# Altium integrated library Altium_WCAP-CSGP (rev21d).IntLib: 945 symbols (part 15 of 17)
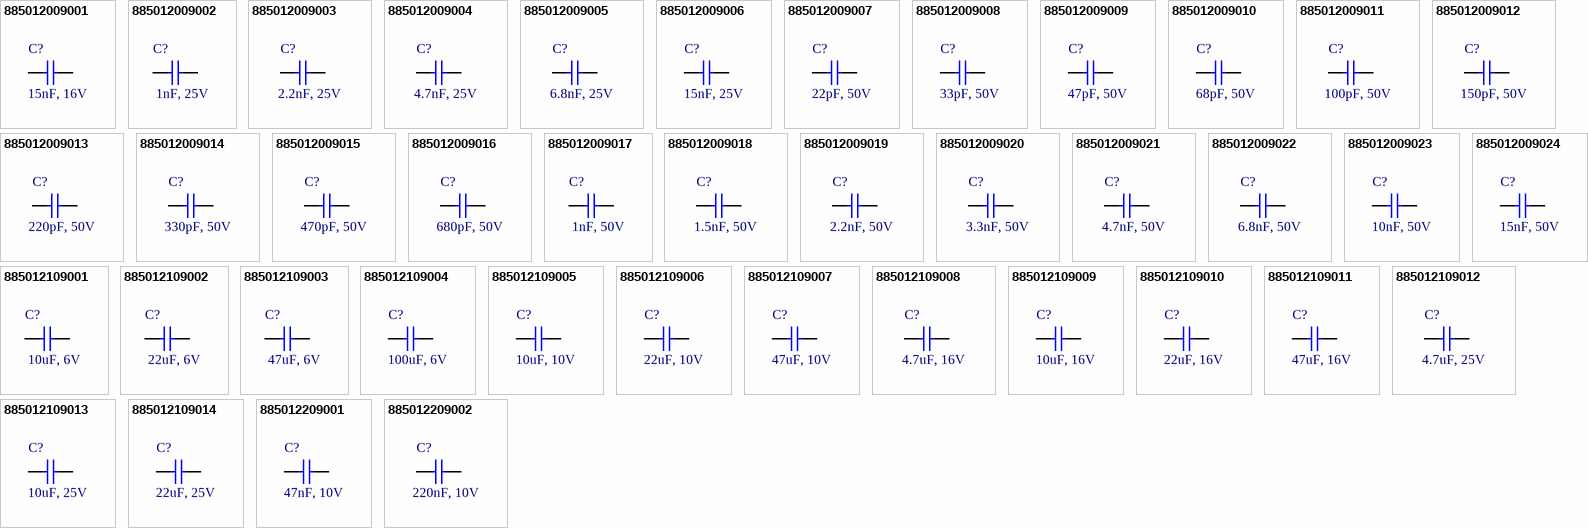
[diagram p41: symbols 885012009001 to 885012209002]

## 885012009011
designator C?, comment 100pF, 50V
WCAP-CSGP Multilayer Ceramic Chip Capacitor, General Purpose, size 1210, NP0, 100pF, 50V; Manufacturer Part Number: 885012009011; Manufacturer: Wurth Elektronik; Rated Voltage: 50VDC; Isolation Resistance  min.: 10GOhm; Capacitance Tolerance: +/-5%; Technical Reference: NP01210101J050DFCT10000; Q-Factor min.: 1000; ComponentLink1Description: Manufacturer; ComponentLink1URL: http://www.we-online.de; ComponentLink2Description: Datasheet; ComponentLink2URL: https://www.we-online.com/catalog/datasheet/885012009011.pdf; Operating Temperature: -55 to +125degC; Packaging: Tape and Reel; Published Date: April 2021; Ceramic Type: NP0; Dissipation Factor max.: -; Height: 0.95mm; Mounting Technology: SMT; Size: 1210; Capacitance: 100pF
footprint WCAP-CSGP_1210_H=0.95mm
pins: 1, 2

## 885012009012
designator C?, comment 150pF, 50V
WCAP-CSGP Multilayer Ceramic Chip Capacitor, General Purpose, size 1210, NP0, 150pF, 50V; Manufacturer Part Number: 885012009012; Manufacturer: Wurth Elektronik; Rated Voltage: 50VDC; Isolation Resistance  min.: 10GOhm; Capacitance Tolerance: +/-5%; Technical Reference: NP01210151J050DFCT10000; Q-Factor min.: 1000; ComponentLink1Description: Manufacturer; ComponentLink1URL: http://www.we-online.de; ComponentLink2Description: Datasheet; ComponentLink2URL: https://www.we-online.com/catalog/datasheet/885012009012.pdf; Operating Temperature: -55 to +125degC; Packaging: Tape and Reel; Published Date: April 2021; Ceramic Type: NP0; Dissipation Factor max.: -; Height: 0.95mm; Mounting Technology: SMT; Size: 1210; Capacitance: 150pF
footprint WCAP-CSGP_1210_H=0.95mm
pins: 1, 2

## 885012009013
designator C?, comment 220pF, 50V
WCAP-CSGP Multilayer Ceramic Chip Capacitor, General Purpose, size 1210, NP0, 220pF, 50V; Manufacturer Part Number: 885012009013; Manufacturer: Wurth Elektronik; Rated Voltage: 50VDC; Isolation Resistance  min.: 10GOhm; Capacitance Tolerance: +/-5%; Technical Reference: NP01210221J050DFCT10000; Q-Factor min.: 1000; ComponentLink1Description: Manufacturer; ComponentLink1URL: http://www.we-online.de; ComponentLink2Description: Datasheet; ComponentLink2URL: https://www.we-online.com/catalog/datasheet/885012009013.pdf; Operating Temperature: -55 to +125degC; Packaging: Tape and Reel; Published Date: April 2021; Ceramic Type: NP0; Dissipation Factor max.: -; Height: 0.95mm; Mounting Technology: SMT; Size: 1210; Capacitance: 220pF
footprint WCAP-CSGP_1210_H=0.95mm
pins: 1, 2

## 885012009014
designator C?, comment 330pF, 50V
WCAP-CSGP Multilayer Ceramic Chip Capacitor, General Purpose, size 1210, NP0, 330pF, 50V; Manufacturer Part Number: 885012009014; Manufacturer: Wurth Elektronik; Rated Voltage: 50VDC; Isolation Resistance  min.: 10GOhm; Capacitance Tolerance: +/-5%; Technical Reference: NP01210331J050DFCT10000; Q-Factor min.: 1000; ComponentLink1Description: Manufacturer; ComponentLink1URL: http://www.we-online.de; ComponentLink2Description: Datasheet; ComponentLink2URL: https://www.we-online.com/catalog/datasheet/885012009014.pdf; Operating Temperature: -55 to +125degC; Packaging: Tape and Reel; Published Date: April 2021; Ceramic Type: NP0; Dissipation Factor max.: -; Height: 0.95mm; Mounting Technology: SMT; Size: 1210; Capacitance: 330pF
footprint WCAP-CSGP_1210_H=0.95mm
pins: 1, 2

## 885012009015
designator C?, comment 470pF, 50V
WCAP-CSGP Multilayer Ceramic Chip Capacitor, General Purpose, size 1210, NP0, 470pF, 50V; Manufacturer Part Number: 885012009015; Manufacturer: Wurth Elektronik; Rated Voltage: 50VDC; Isolation Resistance  min.: 10GOhm; Capacitance Tolerance: +/-5%; Technical Reference: NP01210471J050DFCT10000; Q-Factor min.: 1000; ComponentLink1Description: Manufacturer; ComponentLink1URL: http://www.we-online.de; ComponentLink2Description: Datasheet; ComponentLink2URL: https://www.we-online.com/catalog/datasheet/885012009015.pdf; Operating Temperature: -55 to +125degC; Packaging: Tape and Reel; Published Date: April 2021; Ceramic Type: NP0; Dissipation Factor max.: -; Height: 0.95mm; Mounting Technology: SMT; Size: 1210; Capacitance: 470pF
footprint WCAP-CSGP_1210_H=0.95mm
pins: 1, 2

## 885012009016
designator C?, comment 680pF, 50V
WCAP-CSGP Multilayer Ceramic Chip Capacitor, General Purpose, size 1210, NP0, 680pF, 50V; Manufacturer Part Number: 885012009016; Manufacturer: Wurth Elektronik; Rated Voltage: 50VDC; Isolation Resistance  min.: 10GOhm; Capacitance Tolerance: +/-5%; Technical Reference: NP01210681J050DFCT10000; Q-Factor min.: 1000; ComponentLink1Description: Manufacturer; ComponentLink1URL: http://www.we-online.de; ComponentLink2Description: Datasheet; ComponentLink2URL: https://www.we-online.com/catalog/datasheet/885012009016.pdf; Operating Temperature: -55 to +125degC; Packaging: Tape and Reel; Published Date: April 2021; Ceramic Type: NP0; Dissipation Factor max.: -; Height: 0.95mm; Mounting Technology: SMT; Size: 1210; Capacitance: 680pF
footprint WCAP-CSGP_1210_H=0.95mm
pins: 1, 2

## 885012009017
designator C?, comment 1nF, 50V
WCAP-CSGP Multilayer Ceramic Chip Capacitor, General Purpose, size 1210, NP0, 1nF, 50V; Manufacturer Part Number: 885012009017; Manufacturer: Wurth Elektronik; Rated Voltage: 50VDC; Isolation Resistance  min.: 10GOhm; Capacitance Tolerance: +/-5%; Technical Reference: NP01210102J050DFCT10000; Q-Factor min.: 1000; ComponentLink1Description: Manufacturer; ComponentLink1URL: http://www.we-online.de; ComponentLink2Description: Datasheet; ComponentLink2URL: https://www.we-online.com/catalog/datasheet/885012009017.pdf; Operating Temperature: -55 to +125degC; Packaging: Tape and Reel; Published Date: April 2021; Ceramic Type: NP0; Dissipation Factor max.: -; Height: 0.95mm; Mounting Technology: SMT; Size: 1210; Capacitance: 1nF
footprint WCAP-CSGP_1210_H=0.95mm
pins: 1, 2

## 885012009018
designator C?, comment 1.5nF, 50V
WCAP-CSGP Multilayer Ceramic Chip Capacitor, General Purpose, size 1210, NP0, 1.5nF, 50V; Manufacturer Part Number: 885012009018; Manufacturer: Wurth Elektronik; Rated Voltage: 50VDC; Isolation Resistance  min.: 10GOhm; Capacitance Tolerance: +/-5%; Technical Reference: NP01210152J050DFCT10000; Q-Factor min.: 1000; ComponentLink1Description: Manufacturer; ComponentLink1URL: http://www.we-online.de; ComponentLink2Description: Datasheet; ComponentLink2URL: https://www.we-online.com/catalog/datasheet/885012009018.pdf; Operating Temperature: -55 to +125degC; Packaging: Tape and Reel; Published Date: April 2021; Ceramic Type: NP0; Dissipation Factor max.: -; Height: 0.95mm; Mounting Technology: SMT; Size: 1210; Capacitance: 1.5nF
footprint WCAP-CSGP_1210_H=0.95mm
pins: 1, 2

## 885012009019
designator C?, comment 2.2nF, 50V
WCAP-CSGP Multilayer Ceramic Chip Capacitor, General Purpose, size 1210, NP0, 2.2nF, 50V; Manufacturer Part Number: 885012009019; Manufacturer: Wurth Elektronik; Rated Voltage: 50VDC; Isolation Resistance  min.: 10GOhm; Capacitance Tolerance: +/-5%; Technical Reference: NP01210222J050DFCT10000; Q-Factor min.: 1000; ComponentLink1Description: Manufacturer; ComponentLink1URL: http://www.we-online.de; ComponentLink2Description: Datasheet; ComponentLink2URL: https://www.we-online.com/catalog/datasheet/885012009019.pdf; Operating Temperature: -55 to +125degC; Packaging: Tape and Reel; Published Date: April 2021; Ceramic Type: NP0; Dissipation Factor max.: -; Height: 0.95mm; Mounting Technology: SMT; Size: 1210; Capacitance: 2.2nF
footprint WCAP-CSGP_1210_H=0.95mm
pins: 1, 2

## 885012009020
designator C?, comment 3.3nF, 50V
WCAP-CSGP Multilayer Ceramic Chip Capacitor, General Purpose, size 1210, NP0, 3.3nF, 50V; Manufacturer Part Number: 885012009020; Manufacturer: Wurth Elektronik; Rated Voltage: 50VDC; Isolation Resistance  min.: 10GOhm; Capacitance Tolerance: +/-5%; Technical Reference: NP01210332J050DFCT10000; Q-Factor min.: 1000; ComponentLink1Description: Manufacturer; ComponentLink1URL: http://www.we-online.de; ComponentLink2Description: Datasheet; ComponentLink2URL: https://www.we-online.com/catalog/datasheet/885012009020.pdf; Operating Temperature: -55 to +125degC; Packaging: Tape and Reel; Published Date: April 2021; Ceramic Type: NP0; Dissipation Factor max.: -; Height: 0.95mm; Mounting Technology: SMT; Size: 1210; Capacitance: 3.3nF
footprint WCAP-CSGP_1210_H=0.95mm
pins: 1, 2

## 885012009021
designator C?, comment 4.7nF, 50V
WCAP-CSGP Multilayer Ceramic Chip Capacitor, General Purpose, size 1210, NP0, 4.7nF, 50V; Manufacturer Part Number: 885012009021; Manufacturer: Wurth Elektronik; Rated Voltage: 50VDC; Isolation Resistance  min.: 10GOhm; Capacitance Tolerance: +/-5%; Technical Reference: NP01210472J050DFCT10000; Q-Factor min.: 1000; ComponentLink1Description: Manufacturer; ComponentLink1URL: http://www.we-online.de; ComponentLink2Description: Datasheet; ComponentLink2URL: https://www.we-online.com/catalog/datasheet/885012009021.pdf; Operating Temperature: -55 to +125degC; Packaging: Tape and Reel; Published Date: April 2021; Ceramic Type: NP0; Dissipation Factor max.: -; Height: 0.95mm; Mounting Technology: SMT; Size: 1210; Capacitance: 4.7nF
footprint WCAP-CSGP_1210_H=0.95mm
pins: 1, 2

## 885012009022
designator C?, comment 6.8nF, 50V
WCAP-CSGP Multilayer Ceramic Chip Capacitor, General Purpose, size 1210, NP0, 6.8nF, 50V; Manufacturer Part Number: 885012009022; Manufacturer: Wurth Elektronik; Rated Voltage: 50VDC; Isolation Resistance  min.: 10GOhm; Capacitance Tolerance: +/-5%; Technical Reference: NP01210682J050DFCT10000; Q-Factor min.: 1000; ComponentLink1Description: Manufacturer; ComponentLink1URL: http://www.we-online.de; ComponentLink2Description: Datasheet; ComponentLink2URL: https://www.we-online.com/catalog/datasheet/885012009022.pdf; Operating Temperature: -55 to +125degC; Packaging: Tape and Reel; Published Date: April 2021; Ceramic Type: NP0; Dissipation Factor max.: -; Height: 0.95mm; Mounting Technology: SMT; Size: 1210; Capacitance: 6.8nF
footprint WCAP-CSGP_1210_H=0.95mm
pins: 1, 2

## 885012009023
designator C?, comment 10nF, 50V
WCAP-CSGP Multilayer Ceramic Chip Capacitor, General Purpose, size 1210, NP0, 10nF, 50V; Manufacturer Part Number: 885012009023; Manufacturer: Wurth Elektronik; Rated Voltage: 50VDC; Isolation Resistance  min.: 10GOhm; Capacitance Tolerance: +/-5%; Technical Reference: NP01210103J050DFCT10000; Q-Factor min.: 1000; ComponentLink1Description: Manufacturer; ComponentLink1URL: http://www.we-online.de; ComponentLink2Description: Datasheet; ComponentLink2URL: https://www.we-online.com/catalog/datasheet/885012009023.pdf; Operating Temperature: -55 to +125degC; Packaging: Tape and Reel; Published Date: April 2021; Ceramic Type: NP0; Dissipation Factor max.: -; Height: 0.95mm; Mounting Technology: SMT; Size: 1210; Capacitance: 10nF
footprint WCAP-CSGP_1210_H=0.95mm
pins: 1, 2

## 885012009024
designator C?, comment 15nF, 50V
WCAP-CSGP Multilayer Ceramic Chip Capacitor, General Purpose, size 1210, NP0, 15nF, 50V; Manufacturer Part Number: 885012009024; Manufacturer: Wurth Elektronik; Rated Voltage: 50VDC; Isolation Resistance  min.: 10GOhm; Capacitance Tolerance: +/-5%; Technical Reference: NP01210153J050DFCT10000; Q-Factor min.: 1000; ComponentLink1Description: Manufacturer; ComponentLink1URL: http://www.we-online.de; ComponentLink2Description: Datasheet; ComponentLink2URL: https://www.we-online.com/catalog/datasheet/885012009024.pdf; Operating Temperature: -55 to +125degC; Packaging: Tape and Reel; Published Date: April 2021; Ceramic Type: NP0; Dissipation Factor max.: -; Height: 1.25mm; Mounting Technology: SMT; Size: 1210; Capacitance: 15nF
footprint WCAP-CSGP_1210_H=1.25mm
pins: 1, 2

## 885012109001
designator C?, comment 10uF, 6V
WCAP-CSGP Multilayer Ceramic Chip Capacitor, General Purpose, size 1210, X5R, 10uF, 6V; Manufacturer Part Number: 885012109001; Manufacturer: Wurth Elektronik; Rated Voltage: 6VDC; Isolation Resistance  min.: 0.01GOhm; Capacitance Tolerance: +/-20%; Dissipation Factor max.: 10%; Technical Reference: X5R1210106M6R3DFCT10000; ComponentLink1Description: Manufacturer; ComponentLink1URL: http://www.we-online.de; ComponentLink2Description: Datasheet; ComponentLink2URL: https://www.we-online.com/catalog/datasheet/885012109001.pdf; Operating Temperature: -55 to +85degC; Packaging: Tape and Reel; Published Date: April 2021; Ceramic Type: X5R; Height: 2mm; Mounting Technology: SMT; Size: 1210; Capacitance: 10uF; Q-Factor min.: -
footprint WCAP-CSGP_1210_H=2mm
pins: 1, 2

## 885012109002
designator C?, comment 22uF, 6V
WCAP-CSGP Multilayer Ceramic Chip Capacitor, General Purpose, size 1210, X5R, 22uF, 6V; Manufacturer Part Number: 885012109002; Manufacturer: Wurth Elektronik; Rated Voltage: 6VDC; Isolation Resistance  min.: 0.02GOhm; Capacitance Tolerance: +/-20%; Dissipation Factor max.: 5%; Technical Reference: X5R1210226M6R3DFCT10000; ComponentLink1Description: Manufacturer; ComponentLink1URL: http://www.we-online.de; ComponentLink2Description: Datasheet; ComponentLink2URL: https://www.we-online.com/catalog/datasheet/885012109002.pdf; Operating Temperature: -55 to +85degC; Packaging: Tape and Reel; Published Date: April 2021; Ceramic Type: X5R; Height: 2.5mm; Mounting Technology: SMT; Size: 1210; Capacitance: 22uF; Q-Factor min.: -
footprint WCAP-CSGP_1210_H=2.5mm
pins: 1, 2

## 885012109003
designator C?, comment 47uF, 6V
WCAP-CSGP Multilayer Ceramic Chip Capacitor, General Purpose, size 1210, X5R, 47uF, 6V; Manufacturer Part Number: 885012109003; Manufacturer: Wurth Elektronik; Rated Voltage: 6VDC; Isolation Resistance  min.: 0.002GOhm; Capacitance Tolerance: +/-20%; Dissipation Factor max.: 10%; Technical Reference: X5R1210476M6R3DFCT10000; ComponentLink1Description: Manufacturer; ComponentLink1URL: http://www.we-online.de; ComponentLink2Description: Datasheet; ComponentLink2URL: https://www.we-online.com/catalog/datasheet/885012109003.pdf; Operating Temperature: -55 to +85degC; Packaging: Tape and Reel; Published Date: April 2021; Ceramic Type: X5R; Height: 2.5mm; Mounting Technology: SMT; Size: 1210; Capacitance: 47uF; Q-Factor min.: -
footprint WCAP-CSGP_1210_H=2.5mm
pins: 1, 2

## 885012109004
designator C?, comment 100uF, 6V
WCAP-CSGP Multilayer Ceramic Chip Capacitor, General Purpose, size 1210, X5R, 100uF, 6V; Manufacturer Part Number: 885012109004; Manufacturer: Wurth Elektronik; Rated Voltage: 6VDC; Isolation Resistance  min.: 0.001GOhm; Capacitance Tolerance: +/-20%; Dissipation Factor max.: 10%; Technical Reference: X5R1210107M6R3DFCT10000; ComponentLink1Description: Manufacturer; ComponentLink1URL: http://www.we-online.de; ComponentLink2Description: Datasheet; ComponentLink2URL: https://www.we-online.com/catalog/datasheet/885012109004.pdf; Operating Temperature: -55 to +85degC; Packaging: Tape and Reel; Published Date: April 2021; Ceramic Type: X5R; Height: 2.5mm; Mounting Technology: SMT; Size: 1210; Capacitance: 100uF; Q-Factor min.: -
footprint WCAP-CSGP_1210_H=2.5mm
pins: 1, 2

## 885012109005
designator C?, comment 10uF, 10V
WCAP-CSGP Multilayer Ceramic Chip Capacitor, General Purpose, size 1210, X5R, 10uF, 10V; Manufacturer Part Number: 885012109005; Manufacturer: Wurth Elektronik; Rated Voltage: 10VDC; Isolation Resistance  min.: 0.05GOhm; Capacitance Tolerance: +/-20%; Dissipation Factor max.: 5%; Technical Reference: X5R1210106M010DFCT10000; ComponentLink1Description: Manufacturer; ComponentLink1URL: http://www.we-online.de; ComponentLink2Description: Datasheet; ComponentLink2URL: https://www.we-online.com/catalog/datasheet/885012109005.pdf; Operating Temperature: -55 to +85degC; Packaging: Tape and Reel; Published Date: April 2021; Ceramic Type: X5R; Height: 2mm; Mounting Technology: SMT; Size: 1210; Capacitance: 10uF; Q-Factor min.: -
footprint WCAP-CSGP_1210_H=2mm
pins: 1, 2

## 885012109006
designator C?, comment 22uF, 10V
WCAP-CSGP Multilayer Ceramic Chip Capacitor, General Purpose, size 1210, X5R, 22uF, 10V; Manufacturer Part Number: 885012109006; Manufacturer: Wurth Elektronik; Rated Voltage: 10VDC; Isolation Resistance  min.: 0.02GOhm; Capacitance Tolerance: +/-20%; Dissipation Factor max.: 5%; Technical Reference: X5R1210226M010DFCT10000; ComponentLink1Description: Manufacturer; ComponentLink1URL: http://www.we-online.de; ComponentLink2Description: Datasheet; ComponentLink2URL: https://www.we-online.com/catalog/datasheet/885012109006.pdf; Operating Temperature: -55 to +85degC; Packaging: Tape and Reel; Published Date: April 2021; Ceramic Type: X5R; Height: 2.5mm; Mounting Technology: SMT; Size: 1210; Capacitance: 22uF; Q-Factor min.: -
footprint WCAP-CSGP_1210_H=2.5mm
pins: 1, 2

## 885012109007
designator C?, comment 47uF, 10V
WCAP-CSGP Multilayer Ceramic Chip Capacitor, General Purpose, size 1210, X5R, 47uF, 10V; Manufacturer Part Number: 885012109007; Manufacturer: Wurth Elektronik; Rated Voltage: 10VDC; Isolation Resistance  min.: 0.002GOhm; Capacitance Tolerance: +/-20%; Dissipation Factor max.: 10%; Technical Reference: X5R1210476M010DFCT10000; ComponentLink1Description: Manufacturer; ComponentLink1URL: http://www.we-online.de; ComponentLink2Description: Datasheet; ComponentLink2URL: https://www.we-online.com/catalog/datasheet/885012109007.pdf; Operating Temperature: -55 to +85degC; Packaging: Tape and Reel; Published Date: April 2021; Ceramic Type: X5R; Height: 2.5mm; Mounting Technology: SMT; Size: 1210; Capacitance: 47uF; Q-Factor min.: -
footprint WCAP-CSGP_1210_H=2.5mm
pins: 1, 2

## 885012109008
designator C?, comment 4.7uF, 16V
WCAP-CSGP Multilayer Ceramic Chip Capacitor, General Purpose, size 1210, X5R, 4.7uF, 16V; Manufacturer Part Number: 885012109008; Manufacturer: Wurth Elektronik; Rated Voltage: 16VDC; Isolation Resistance  min.: 0.1GOhm; Capacitance Tolerance: +/-20%; Dissipation Factor max.: 5%; Technical Reference: X5R1210475M016DFCT10000; ComponentLink1Description: Manufacturer; ComponentLink1URL: http://www.we-online.de; ComponentLink2Description: Datasheet; ComponentLink2URL: https://www.we-online.com/catalog/datasheet/885012109008.pdf; Operating Temperature: -55 to +85degC; Packaging: Tape and Reel; Published Date: April 2021; Ceramic Type: X5R; Height: 2mm; Mounting Technology: SMT; Size: 1210; Capacitance: 4.7uF; Q-Factor min.: -
footprint WCAP-CSGP_1210_H=2mm
pins: 1, 2

## 885012109009
designator C?, comment 10uF, 16V
WCAP-CSGP Multilayer Ceramic Chip Capacitor, General Purpose, size 1210, X5R, 10uF, 16V; Manufacturer Part Number: 885012109009; Manufacturer: Wurth Elektronik; Rated Voltage: 16VDC; Isolation Resistance  min.: 0.05GOhm; Capacitance Tolerance: +/-20%; Dissipation Factor max.: 5%; Technical Reference: X5R1210106M016DFCT10000; ComponentLink1Description: Manufacturer; ComponentLink1URL: http://www.we-online.de; ComponentLink2Description: Datasheet; ComponentLink2URL: https://www.we-online.com/catalog/datasheet/885012109009.pdf; Operating Temperature: -55 to +85degC; Packaging: Tape and Reel; Published Date: April 2021; Ceramic Type: X5R; Height: 2mm; Mounting Technology: SMT; Size: 1210; Capacitance: 10uF; Q-Factor min.: -
footprint WCAP-CSGP_1210_H=2mm
pins: 1, 2

## 885012109010
designator C?, comment 22uF, 16V
WCAP-CSGP Multilayer Ceramic Chip Capacitor, General Purpose, size 1210, X5R, 22uF, 16V; Manufacturer Part Number: 885012109010; Manufacturer: Wurth Elektronik; Rated Voltage: 16VDC; Isolation Resistance  min.: 0.02GOhm; Capacitance Tolerance: +/-20%; Dissipation Factor max.: 5%; Technical Reference: X5R1210226M016DFCT10000; ComponentLink1Description: Manufacturer; ComponentLink1URL: http://www.we-online.de; ComponentLink2Description: Datasheet; ComponentLink2URL: https://www.we-online.com/catalog/datasheet/885012109010.pdf; Operating Temperature: -55 to +85degC; Packaging: Tape and Reel; Published Date: April 2021; Ceramic Type: X5R; Height: 2.5mm; Mounting Technology: SMT; Size: 1210; Capacitance: 22uF; Q-Factor min.: -
footprint WCAP-CSGP_1210_H=2.5mm
pins: 1, 2

## 885012109011
designator C?, comment 47uF, 16V
WCAP-CSGP Multilayer Ceramic Chip Capacitor, General Purpose, size 1210, X5R, 47uF, 16V; Manufacturer Part Number: 885012109011; Manufacturer: Wurth Elektronik; Rated Voltage: 16VDC; Isolation Resistance  min.: 0.002GOhm; Capacitance Tolerance: +/-20%; Dissipation Factor max.: 10%; Technical Reference: X5R1210476M016DFCT10000; ComponentLink1Description: Manufacturer; ComponentLink1URL: http://www.we-online.de; ComponentLink2Description: Datasheet; ComponentLink2URL: https://www.we-online.com/catalog/datasheet/885012109011.pdf; Operating Temperature: -55 to +85degC; Packaging: Tape and Reel; Published Date: April 2021; Ceramic Type: X5R; Height: 2.5mm; Mounting Technology: SMT; Size: 1210; Capacitance: 47uF; Q-Factor min.: -
footprint WCAP-CSGP_1210_H=2.5mm
pins: 1, 2

## 885012109012
designator C?, comment 4.7uF, 25V
WCAP-CSGP Multilayer Ceramic Chip Capacitor, General Purpose, size 1210, X5R, 4.7uF, 25V; Manufacturer Part Number: 885012109012; Manufacturer: Wurth Elektronik; Rated Voltage: 25VDC; Isolation Resistance  min.: 0.1GOhm; Capacitance Tolerance: +/-20%; Dissipation Factor max.: 3.5%; Technical Reference: X5R1210475M025DFCT10000; ComponentLink1Description: Manufacturer; ComponentLink1URL: http://www.we-online.de; ComponentLink2Description: Datasheet; ComponentLink2URL: https://www.we-online.com/catalog/datasheet/885012109012.pdf; Operating Temperature: -55 to +85degC; Packaging: Tape and Reel; Published Date: April 2021; Ceramic Type: X5R; Height: 2mm; Mounting Technology: SMT; Size: 1210; Capacitance: 4.7uF; Q-Factor min.: -
footprint WCAP-CSGP_1210_H=2mm
pins: 1, 2

## 885012109013
designator C?, comment 10uF, 25V
WCAP-CSGP Multilayer Ceramic Chip Capacitor, General Purpose, size 1210, X5R, 10uF, 25V; Manufacturer Part Number: 885012109013; Manufacturer: Wurth Elektronik; Rated Voltage: 25VDC; Isolation Resistance  min.: 0.01GOhm; Capacitance Tolerance: +/-20%; Dissipation Factor max.: 10%; Technical Reference: X5R1210106M025DFCT10000; ComponentLink1Description: Manufacturer; ComponentLink1URL: http://www.we-online.de; ComponentLink2Description: Datasheet; ComponentLink2URL: https://www.we-online.com/catalog/datasheet/885012109013.pdf; Operating Temperature: -55 to +85degC; Packaging: Tape and Reel; Published Date: April 2021; Ceramic Type: X5R; Height: 2mm; Mounting Technology: SMT; Size: 1210; Capacitance: 10uF; Q-Factor min.: -
footprint WCAP-CSGP_1210_H=2mm
pins: 1, 2

## 885012109014
designator C?, comment 22uF, 25V
WCAP-CSGP Multilayer Ceramic Chip Capacitor, General Purpose, size 1210, X5R, 22uF, 25V; Manufacturer Part Number: 885012109014; Manufacturer: Wurth Elektronik; Rated Voltage: 25VDC; Isolation Resistance  min.: 0.005GOhm; Capacitance Tolerance: +/-20%; Dissipation Factor max.: 5%; Technical Reference: X5R1210226M025DFCT10000; ComponentLink1Description: Manufacturer; ComponentLink1URL: http://www.we-online.de; ComponentLink2Description: Datasheet; ComponentLink2URL: https://www.we-online.com/catalog/datasheet/885012109014.pdf; Operating Temperature: -55 to +85degC; Packaging: Tape and Reel; Published Date: April 2021; Ceramic Type: X5R; Height: 2.5mm; Mounting Technology: SMT; Size: 1210; Capacitance: 22uF; Q-Factor min.: -
footprint WCAP-CSGP_1210_H=2.5mm
pins: 1, 2

## 885012209001
designator C?, comment 47nF, 10V
WCAP-CSGP Multilayer Ceramic Chip Capacitor, General Purpose, size 1210, X7R, 47nF, 10V; Manufacturer Part Number: 885012209001; Manufacturer: Wurth Elektronik; Rated Voltage: 10VDC; Isolation Resistance  min.: 10GOhm; Capacitance Tolerance: +/-10%; Dissipation Factor max.: 5%; Technical Reference: X7R1210473K010DFCT10000; ComponentLink1Description: Manufacturer; ComponentLink1URL: http://www.we-online.de; ComponentLink2Description: Datasheet; ComponentLink2URL: https://www.we-online.com/catalog/datasheet/885012209001.pdf; Operating Temperature: -55 to +125degC; Packaging: Tape and Reel; Published Date: April 2021; Ceramic Type: X7R; Height: 0.95mm; Mounting Technology: SMT; Size: 1210; Capacitance: 47nF; Q-Factor min.: -
footprint WCAP-CSGP_1210_H=0.95mm
pins: 1, 2

## 885012209002
designator C?, comment 220nF, 10V
WCAP-CSGP Multilayer Ceramic Chip Capacitor, General Purpose, size 1210, X7R, 220nF, 10V; Manufacturer Part Number: 885012209002; Manufacturer: Wurth Elektronik; Rated Voltage: 10VDC; Isolation Resistance  min.: 2.3GOhm; Capacitance Tolerance: +/-10%; Dissipation Factor max.: 5%; Technical Reference: X7R1210224K010DFCT10000; ComponentLink1Description: Manufacturer; ComponentLink1URL: http://www.we-online.de; ComponentLink2Description: Datasheet; ComponentLink2URL: https://www.we-online.com/catalog/datasheet/885012209002.pdf; Operating Temperature: -55 to +125degC; Packaging: Tape and Reel; Published Date: April 2021; Ceramic Type: X7R; Height: 0.95mm; Mounting Technology: SMT; Size: 1210; Capacitance: 220nF; Q-Factor min.: -
footprint WCAP-CSGP_1210_H=0.95mm
pins: 1, 2

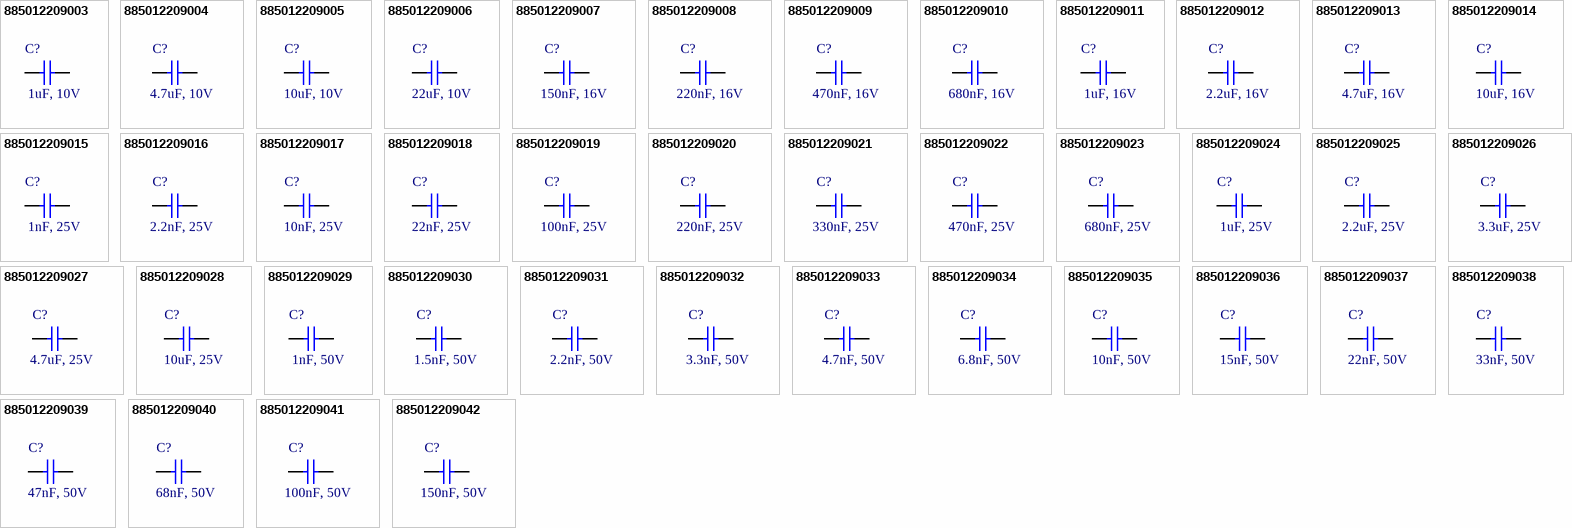
[diagram p24: symbols 885012209003 to 885012209042]

## 885012209003
designator C?, comment 1uF, 10V
WCAP-CSGP Multilayer Ceramic Chip Capacitor, General Purpose, size 1210, X7R, 1uF, 10V; Manufacturer Part Number: 885012209003; Manufacturer: Wurth Elektronik; Rated Voltage: 10VDC; Isolation Resistance  min.: 0.5GOhm; Capacitance Tolerance: +/-10%; Dissipation Factor max.: 5%; Technical Reference: X7R1210105K010DFCT10000; ComponentLink1Description: Manufacturer; ComponentLink1URL: http://www.we-online.de; ComponentLink2Description: Datasheet; ComponentLink2URL: https://www.we-online.com/catalog/datasheet/885012209003.pdf; Operating Temperature: -55 to +125degC; Packaging: Tape and Reel; Published Date: April 2021; Ceramic Type: X7R; Height: 1.25mm; Mounting Technology: SMT; Size: 1210; Capacitance: 1uF; Q-Factor min.: -
footprint WCAP-CSGP_1210_H=1.25mm
pins: 1, 2

## 885012209004
designator C?, comment 4.7uF, 10V
WCAP-CSGP Multilayer Ceramic Chip Capacitor, General Purpose, size 1210, X7R, 4.7uF, 10V; Manufacturer Part Number: 885012209004; Manufacturer: Wurth Elektronik; Rated Voltage: 10VDC; Isolation Resistance  min.: 0.1GOhm; Capacitance Tolerance: +/-10%; Dissipation Factor max.: 5%; Technical Reference: X7R1210475K010DFCT10000; ComponentLink1Description: Manufacturer; ComponentLink1URL: http://www.we-online.de; ComponentLink2Description: Datasheet; ComponentLink2URL: https://www.we-online.com/catalog/datasheet/885012209004.pdf; Operating Temperature: -55 to +125degC; Packaging: Tape and Reel; Published Date: April 2021; Ceramic Type: X7R; Height: 2mm; Mounting Technology: SMT; Size: 1210; Capacitance: 4.7uF; Q-Factor min.: -
footprint WCAP-CSGP_1210_H=2mm
pins: 1, 2

## 885012209005
designator C?, comment 10uF, 10V
WCAP-CSGP Multilayer Ceramic Chip Capacitor, General Purpose, size 1210, X7R, 10uF, 10V; Manufacturer Part Number: 885012209005; Manufacturer: Wurth Elektronik; Rated Voltage: 10VDC; Isolation Resistance  min.: 0.1GOhm; Capacitance Tolerance: +/-10%; Dissipation Factor max.: 5%; Technical Reference: X7R1210106K010DFCT10000; ComponentLink1Description: Manufacturer; ComponentLink1URL: http://www.we-online.de; ComponentLink2Description: Datasheet; ComponentLink2URL: https://www.we-online.com/catalog/datasheet/885012209005.pdf; Operating Temperature: -55 to +125degC; Packaging: Tape and Reel; Published Date: April 2021; Ceramic Type: X7R; Height: 2mm; Mounting Technology: SMT; Size: 1210; Capacitance: 10uF; Q-Factor min.: -
footprint WCAP-CSGP_1210_H=2mm
pins: 1, 2

## 885012209006
designator C?, comment 22uF, 10V
WCAP-CSGP Multilayer Ceramic Chip Capacitor, General Purpose, size 1210, X7R, 22uF, 10V; Manufacturer Part Number: 885012209006; Manufacturer: Wurth Elektronik; Rated Voltage: 10VDC; Isolation Resistance  min.: 0.02GOhm; Capacitance Tolerance: +/-10%; Dissipation Factor max.: 5%; Technical Reference: X7R1210226K010DFCT10000; ComponentLink1Description: Manufacturer; ComponentLink1URL: http://www.we-online.de; ComponentLink2Description: Datasheet; ComponentLink2URL: https://www.we-online.com/catalog/datasheet/885012209006.pdf; Operating Temperature: -55 to +125degC; Packaging: Tape and Reel; Published Date: April 2021; Ceramic Type: X7R; Height: 2.5mm; Mounting Technology: SMT; Size: 1210; Capacitance: 22uF; Q-Factor min.: -
footprint WCAP-CSGP_1210_H=2.5mm
pins: 1, 2

## 885012209007
designator C?, comment 150nF, 16V
WCAP-CSGP Multilayer Ceramic Chip Capacitor, General Purpose, size 1210, X7R, 150nF, 16V; Manufacturer Part Number: 885012209007; Manufacturer: Wurth Elektronik; Rated Voltage: 16VDC; Isolation Resistance  min.: 3.3GOhm; Capacitance Tolerance: +/-10%; Dissipation Factor max.: 3.5%; Technical Reference: X7R1210154K016DFCT10000; ComponentLink1Description: Manufacturer; ComponentLink1URL: http://www.we-online.de; ComponentLink2Description: Datasheet; ComponentLink2URL: https://www.we-online.com/catalog/datasheet/885012209007.pdf; Operating Temperature: -55 to +125degC; Packaging: Tape and Reel; Published Date: April 2021; Ceramic Type: X7R; Height: 0.95mm; Mounting Technology: SMT; Size: 1210; Capacitance: 150nF; Q-Factor min.: -
footprint WCAP-CSGP_1210_H=0.95mm
pins: 1, 2

## 885012209008
designator C?, comment 220nF, 16V
WCAP-CSGP Multilayer Ceramic Chip Capacitor, General Purpose, size 1210, X7R, 220nF, 16V; Manufacturer Part Number: 885012209008; Manufacturer: Wurth Elektronik; Rated Voltage: 16VDC; Isolation Resistance  min.: 2.3GOhm; Capacitance Tolerance: +/-10%; Dissipation Factor max.: 3.5%; Technical Reference: X7R1210224K016DFCT10000; ComponentLink1Description: Manufacturer; ComponentLink1URL: http://www.we-online.de; ComponentLink2Description: Datasheet; ComponentLink2URL: https://www.we-online.com/catalog/datasheet/885012209008.pdf; Operating Temperature: -55 to +125degC; Packaging: Tape and Reel; Published Date: April 2021; Ceramic Type: X7R; Height: 0.95mm; Mounting Technology: SMT; Size: 1210; Capacitance: 220nF; Q-Factor min.: -
footprint WCAP-CSGP_1210_H=0.95mm
pins: 1, 2

## 885012209009
designator C?, comment 470nF, 16V
WCAP-CSGP Multilayer Ceramic Chip Capacitor, General Purpose, size 1210, X7R, 470nF, 16V; Manufacturer Part Number: 885012209009; Manufacturer: Wurth Elektronik; Rated Voltage: 16VDC; Isolation Resistance  min.: 1.1GOhm; Capacitance Tolerance: +/-10%; Dissipation Factor max.: 3.5%; Technical Reference: X7R1210474K016DFCT10000; ComponentLink1Description: Manufacturer; ComponentLink1URL: http://www.we-online.de; ComponentLink2Description: Datasheet; ComponentLink2URL: https://www.we-online.com/catalog/datasheet/885012209009.pdf; Operating Temperature: -55 to +125degC; Packaging: Tape and Reel; Published Date: April 2021; Ceramic Type: X7R; Height: 0.95mm; Mounting Technology: SMT; Size: 1210; Capacitance: 470nF; Q-Factor min.: -
footprint WCAP-CSGP_1210_H=0.95mm
pins: 1, 2

## 885012209010
designator C?, comment 680nF, 16V
WCAP-CSGP Multilayer Ceramic Chip Capacitor, General Purpose, size 1210, X7R, 680nF, 16V; Manufacturer Part Number: 885012209010; Manufacturer: Wurth Elektronik; Rated Voltage: 16VDC; Isolation Resistance  min.: 0.7GOhm; Capacitance Tolerance: +/-10%; Dissipation Factor max.: 3.5%; Technical Reference: X7R1210684K016DFCT10000; ComponentLink1Description: Manufacturer; ComponentLink1URL: http://www.we-online.de; ComponentLink2Description: Datasheet; ComponentLink2URL: https://www.we-online.com/catalog/datasheet/885012209010.pdf; Operating Temperature: -55 to +125degC; Packaging: Tape and Reel; Published Date: April 2021; Ceramic Type: X7R; Height: 1.25mm; Mounting Technology: SMT; Size: 1210; Capacitance: 680nF; Q-Factor min.: -
footprint WCAP-CSGP_1210_H=1.25mm
pins: 1, 2

## 885012209011
designator C?, comment 1uF, 16V
WCAP-CSGP Multilayer Ceramic Chip Capacitor, General Purpose, size 1210, X7R, 1uF, 16V; Manufacturer Part Number: 885012209011; Manufacturer: Wurth Elektronik; Rated Voltage: 16VDC; Isolation Resistance  min.: 0.5GOhm; Capacitance Tolerance: +/-10%; Dissipation Factor max.: 3.5%; Technical Reference: X7R1210105K016DFCT10000; ComponentLink1Description: Manufacturer; ComponentLink1URL: http://www.we-online.de; ComponentLink2Description: Datasheet; ComponentLink2URL: https://www.we-online.com/catalog/datasheet/885012209011.pdf; Operating Temperature: -55 to +125degC; Packaging: Tape and Reel; Published Date: April 2021; Ceramic Type: X7R; Height: 1.25mm; Mounting Technology: SMT; Size: 1210; Capacitance: 1uF; Q-Factor min.: -
footprint WCAP-CSGP_1210_H=1.25mm
pins: 1, 2

## 885012209012
designator C?, comment 2.2uF, 16V
WCAP-CSGP Multilayer Ceramic Chip Capacitor, General Purpose, size 1210, X7R, 2.2uF, 16V; Manufacturer Part Number: 885012209012; Manufacturer: Wurth Elektronik; Rated Voltage: 16VDC; Isolation Resistance  min.: 0.2GOhm; Capacitance Tolerance: +/-10%; Dissipation Factor max.: 3.5%; Technical Reference: X7R1210225K016DFCT10000; ComponentLink1Description: Manufacturer; ComponentLink1URL: http://www.we-online.de; ComponentLink2Description: Datasheet; ComponentLink2URL: https://www.we-online.com/catalog/datasheet/885012209012.pdf; Operating Temperature: -55 to +125degC; Packaging: Tape and Reel; Published Date: April 2021; Ceramic Type: X7R; Height: 2mm; Mounting Technology: SMT; Size: 1210; Capacitance: 2.2uF; Q-Factor min.: -
footprint WCAP-CSGP_1210_H=2mm
pins: 1, 2

## 885012209013
designator C?, comment 4.7uF, 16V
WCAP-CSGP Multilayer Ceramic Chip Capacitor, General Purpose, size 1210, X7R, 4.7uF, 16V; Manufacturer Part Number: 885012209013; Manufacturer: Wurth Elektronik; Rated Voltage: 16VDC; Isolation Resistance  min.: 0.1GOhm; Capacitance Tolerance: +/-10%; Dissipation Factor max.: 5%; Technical Reference: X7R1210475K016DFCT10000; ComponentLink1Description: Manufacturer; ComponentLink1URL: http://www.we-online.de; ComponentLink2Description: Datasheet; ComponentLink2URL: https://www.we-online.com/catalog/datasheet/885012209013.pdf; Operating Temperature: -55 to +125degC; Packaging: Tape and Reel; Published Date: April 2021; Ceramic Type: X7R; Height: 2mm; Mounting Technology: SMT; Size: 1210; Capacitance: 4.7uF; Q-Factor min.: -
footprint WCAP-CSGP_1210_H=2mm
pins: 1, 2

## 885012209014
designator C?, comment 10uF, 16V
WCAP-CSGP Multilayer Ceramic Chip Capacitor, General Purpose, size 1210, X7R, 10uF, 16V; Manufacturer Part Number: 885012209014; Manufacturer: Wurth Elektronik; Rated Voltage: 16VDC; Isolation Resistance  min.: 0.1GOhm; Capacitance Tolerance: +/-10%; Dissipation Factor max.: 5%; Technical Reference: X7R1210106K016DFCT10000; ComponentLink1Description: Manufacturer; ComponentLink1URL: http://www.we-online.de; ComponentLink2Description: Datasheet; ComponentLink2URL: https://www.we-online.com/catalog/datasheet/885012209014.pdf; Operating Temperature: -55 to +125degC; Packaging: Tape and Reel; Published Date: April 2021; Ceramic Type: X7R; Height: 2mm; Mounting Technology: SMT; Size: 1210; Capacitance: 10uF; Q-Factor min.: -
footprint WCAP-CSGP_1210_H=2mm
pins: 1, 2

## 885012209015
designator C?, comment 1nF, 25V
WCAP-CSGP Multilayer Ceramic Chip Capacitor, General Purpose, size 1210, X7R, 1nF, 25V; Manufacturer Part Number: 885012209015; Manufacturer: Wurth Elektronik; Rated Voltage: 25VDC; Isolation Resistance  min.: 10GOhm; Capacitance Tolerance: +/-10%; Dissipation Factor max.: 3.5%; Technical Reference: X7R1210102K025DFCT10000; ComponentLink1Description: Manufacturer; ComponentLink1URL: http://www.we-online.de; ComponentLink2Description: Datasheet; ComponentLink2URL: https://www.we-online.com/catalog/datasheet/885012209015.pdf; Operating Temperature: -55 to +125degC; Packaging: Tape and Reel; Published Date: April 2021; Ceramic Type: X7R; Height: 0.95mm; Mounting Technology: SMT; Size: 1210; Capacitance: 1nF; Q-Factor min.: -
footprint WCAP-CSGP_1210_H=0.95mm
pins: 1, 2

## 885012209016
designator C?, comment 2.2nF, 25V
WCAP-CSGP Multilayer Ceramic Chip Capacitor, General Purpose, size 1210, X7R, 2.2nF, 25V; Manufacturer Part Number: 885012209016; Manufacturer: Wurth Elektronik; Rated Voltage: 25VDC; Isolation Resistance  min.: 10GOhm; Capacitance Tolerance: +/-10%; Dissipation Factor max.: 3.5%; Technical Reference: X7R1210222K025DFCT10000; ComponentLink1Description: Manufacturer; ComponentLink1URL: http://www.we-online.de; ComponentLink2Description: Datasheet; ComponentLink2URL: https://www.we-online.com/catalog/datasheet/885012209016.pdf; Operating Temperature: -55 to +125degC; Packaging: Tape and Reel; Published Date: April 2021; Ceramic Type: X7R; Height: 0.95mm; Mounting Technology: SMT; Size: 1210; Capacitance: 2.2nF; Q-Factor min.: -
footprint WCAP-CSGP_1210_H=0.95mm
pins: 1, 2

## 885012209017
designator C?, comment 10nF, 25V
WCAP-CSGP Multilayer Ceramic Chip Capacitor, General Purpose, size 1210, X7R, 10nF, 25V; Manufacturer Part Number: 885012209017; Manufacturer: Wurth Elektronik; Rated Voltage: 25VDC; Isolation Resistance  min.: 10GOhm; Capacitance Tolerance: +/-10%; Dissipation Factor max.: 3.5%; Technical Reference: X7R1210103K025DFCT10000; ComponentLink1Description: Manufacturer; ComponentLink1URL: http://www.we-online.de; ComponentLink2Description: Datasheet; ComponentLink2URL: https://www.we-online.com/catalog/datasheet/885012209017.pdf; Operating Temperature: -55 to +125degC; Packaging: Tape and Reel; Published Date: April 2021; Ceramic Type: X7R; Height: 0.95mm; Mounting Technology: SMT; Size: 1210; Capacitance: 10nF; Q-Factor min.: -
footprint WCAP-CSGP_1210_H=0.95mm
pins: 1, 2

## 885012209018
designator C?, comment 22nF, 25V
WCAP-CSGP Multilayer Ceramic Chip Capacitor, General Purpose, size 1210, X7R, 22nF, 25V; Manufacturer Part Number: 885012209018; Manufacturer: Wurth Elektronik; Rated Voltage: 25VDC; Isolation Resistance  min.: 10GOhm; Capacitance Tolerance: +/-10%; Dissipation Factor max.: 3.5%; Technical Reference: X7R1210223K025DFCT10000; ComponentLink1Description: Manufacturer; ComponentLink1URL: http://www.we-online.de; ComponentLink2Description: Datasheet; ComponentLink2URL: https://www.we-online.com/catalog/datasheet/885012209018.pdf; Operating Temperature: -55 to +125degC; Packaging: Tape and Reel; Published Date: April 2021; Ceramic Type: X7R; Height: 0.95mm; Mounting Technology: SMT; Size: 1210; Capacitance: 22nF; Q-Factor min.: -
footprint WCAP-CSGP_1210_H=0.95mm
pins: 1, 2

## 885012209019
designator C?, comment 100nF, 25V
WCAP-CSGP Multilayer Ceramic Chip Capacitor, General Purpose, size 1210, X7R, 100nF, 25V; Manufacturer Part Number: 885012209019; Manufacturer: Wurth Elektronik; Rated Voltage: 25VDC; Isolation Resistance  min.: 5GOhm; Capacitance Tolerance: +/-10%; Dissipation Factor max.: 3.5%; Technical Reference: X7R1210104K025DFCT10000; ComponentLink1Description: Manufacturer; ComponentLink1URL: http://www.we-online.de; ComponentLink2Description: Datasheet; ComponentLink2URL: https://www.we-online.com/catalog/datasheet/885012209019.pdf; Operating Temperature: -55 to +125degC; Packaging: Tape and Reel; Published Date: April 2021; Ceramic Type: X7R; Height: 0.95mm; Mounting Technology: SMT; Size: 1210; Capacitance: 100nF; Q-Factor min.: -
footprint WCAP-CSGP_1210_H=0.95mm
pins: 1, 2

## 885012209020
designator C?, comment 220nF, 25V
WCAP-CSGP Multilayer Ceramic Chip Capacitor, General Purpose, size 1210, X7R, 220nF, 25V; Manufacturer Part Number: 885012209020; Manufacturer: Wurth Elektronik; Rated Voltage: 25VDC; Isolation Resistance  min.: 2.3GOhm; Capacitance Tolerance: +/-10%; Dissipation Factor max.: 3.5%; Technical Reference: X7R1210224K025DFCT10000; ComponentLink1Description: Manufacturer; ComponentLink1URL: http://www.we-online.de; ComponentLink2Description: Datasheet; ComponentLink2URL: https://www.we-online.com/catalog/datasheet/885012209020.pdf; Operating Temperature: -55 to +125degC; Packaging: Tape and Reel; Published Date: April 2021; Ceramic Type: X7R; Height: 0.95mm; Mounting Technology: SMT; Size: 1210; Capacitance: 220nF; Q-Factor min.: -
footprint WCAP-CSGP_1210_H=0.95mm
pins: 1, 2

## 885012209021
designator C?, comment 330nF, 25V
WCAP-CSGP Multilayer Ceramic Chip Capacitor, General Purpose, size 1210, X7R, 330nF, 25V; Manufacturer Part Number: 885012209021; Manufacturer: Wurth Elektronik; Rated Voltage: 25VDC; Isolation Resistance  min.: 1.5GOhm; Capacitance Tolerance: +/-10%; Dissipation Factor max.: 3.5%; Technical Reference: X7R1210334K025DFCT10000; ComponentLink1Description: Manufacturer; ComponentLink1URL: http://www.we-online.de; ComponentLink2Description: Datasheet; ComponentLink2URL: https://www.we-online.com/catalog/datasheet/885012209021.pdf; Operating Temperature: -55 to +125degC; Packaging: Tape and Reel; Published Date: April 2021; Ceramic Type: X7R; Height: 0.95mm; Mounting Technology: SMT; Size: 1210; Capacitance: 330nF; Q-Factor min.: -
footprint WCAP-CSGP_1210_H=0.95mm
pins: 1, 2

## 885012209022
designator C?, comment 470nF, 25V
WCAP-CSGP Multilayer Ceramic Chip Capacitor, General Purpose, size 1210, X7R, 470nF, 25V; Manufacturer Part Number: 885012209022; Manufacturer: Wurth Elektronik; Rated Voltage: 25VDC; Isolation Resistance  min.: 1.1GOhm; Capacitance Tolerance: +/-10%; Dissipation Factor max.: 3.5%; Technical Reference: X7R1210474K025DFCT10000; ComponentLink1Description: Manufacturer; ComponentLink1URL: http://www.we-online.de; ComponentLink2Description: Datasheet; ComponentLink2URL: https://www.we-online.com/catalog/datasheet/885012209022.pdf; Operating Temperature: -55 to +125degC; Packaging: Tape and Reel; Published Date: April 2021; Ceramic Type: X7R; Height: 0.95mm; Mounting Technology: SMT; Size: 1210; Capacitance: 470nF; Q-Factor min.: -
footprint WCAP-CSGP_1210_H=0.95mm
pins: 1, 2

## 885012209023
designator C?, comment 680nF, 25V
WCAP-CSGP Multilayer Ceramic Chip Capacitor, General Purpose, size 1210, X7R, 680nF, 25V; Manufacturer Part Number: 885012209023; Manufacturer: Wurth Elektronik; Rated Voltage: 25VDC; Isolation Resistance  min.: 0.7GOhm; Capacitance Tolerance: +/-10%; Dissipation Factor max.: 3.5%; Technical Reference: X7R1210684K025DFCT10000; ComponentLink1Description: Manufacturer; ComponentLink1URL: http://www.we-online.de; ComponentLink2Description: Datasheet; ComponentLink2URL: https://www.we-online.com/catalog/datasheet/885012209023.pdf; Operating Temperature: -55 to +125degC; Packaging: Tape and Reel; Published Date: April 2021; Ceramic Type: X7R; Height: 1.25mm; Mounting Technology: SMT; Size: 1210; Capacitance: 680nF; Q-Factor min.: -
footprint WCAP-CSGP_1210_H=1.25mm
pins: 1, 2

## 885012209024
designator C?, comment 1uF, 25V
WCAP-CSGP Multilayer Ceramic Chip Capacitor, General Purpose, size 1210, X7R, 1uF, 25V; Manufacturer Part Number: 885012209024; Manufacturer: Wurth Elektronik; Rated Voltage: 25VDC; Isolation Resistance  min.: 0.5GOhm; Capacitance Tolerance: +/-10%; Dissipation Factor max.: 3.5%; Technical Reference: X7R1210105K025DFCT10000; ComponentLink1Description: Manufacturer; ComponentLink1URL: http://www.we-online.de; ComponentLink2Description: Datasheet; ComponentLink2URL: https://www.we-online.com/catalog/datasheet/885012209024.pdf; Operating Temperature: -55 to +125degC; Packaging: Tape and Reel; Published Date: April 2021; Ceramic Type: X7R; Height: 1.25mm; Mounting Technology: SMT; Size: 1210; Capacitance: 1uF; Q-Factor min.: -
footprint WCAP-CSGP_1210_H=1.25mm
pins: 1, 2

## 885012209025
designator C?, comment 2.2uF, 25V
WCAP-CSGP Multilayer Ceramic Chip Capacitor, General Purpose, size 1210, X7R, 2.2uF, 25V; Manufacturer Part Number: 885012209025; Manufacturer: Wurth Elektronik; Rated Voltage: 25VDC; Isolation Resistance  min.: 0.2GOhm; Capacitance Tolerance: +/-10%; Dissipation Factor max.: 3.5%; Technical Reference: X7R1210225K025DFCT10000; ComponentLink1Description: Manufacturer; ComponentLink1URL: http://www.we-online.de; ComponentLink2Description: Datasheet; ComponentLink2URL: https://www.we-online.com/catalog/datasheet/885012209025.pdf; Operating Temperature: -55 to +125degC; Packaging: Tape and Reel; Published Date: April 2021; Ceramic Type: X7R; Height: 1.6mm; Mounting Technology: SMT; Size: 1210; Capacitance: 2.2uF; Q-Factor min.: -
footprint WCAP-CSGP_1210_H=1.6mm
pins: 1, 2

## 885012209026
designator C?, comment 3.3uF, 25V
WCAP-CSGP Multilayer Ceramic Chip Capacitor, General Purpose, size 1210, X7R, 3.3uF, 25V; Manufacturer Part Number: 885012209026; Manufacturer: Wurth Elektronik; Rated Voltage: 25VDC; Isolation Resistance  min.: 0.2GOhm; Capacitance Tolerance: +/-10%; Dissipation Factor max.: 3.5%; Technical Reference: X7R1210335K025DFCT10000; ComponentLink1Description: Manufacturer; ComponentLink1URL: http://www.we-online.de; ComponentLink2Description: Datasheet; ComponentLink2URL: https://www.we-online.com/catalog/datasheet/885012209026.pdf; Operating Temperature: -55 to +125degC; Packaging: Tape and Reel; Published Date: April 2021; Ceramic Type: X7R; Height: 1.6mm; Mounting Technology: SMT; Size: 1210; Capacitance: 3.3uF; Q-Factor min.: -
footprint WCAP-CSGP_1210_H=1.6mm
pins: 1, 2

## 885012209027
designator C?, comment 4.7uF, 25V
WCAP-CSGP Multilayer Ceramic Chip Capacitor, General Purpose, size 1210, X7R, 4.7uF, 25V; Manufacturer Part Number: 885012209027; Manufacturer: Wurth Elektronik; Rated Voltage: 25VDC; Isolation Resistance  min.: 0.1GOhm; Capacitance Tolerance: +/-10%; Dissipation Factor max.: 3.5%; Technical Reference: X7R1210475K025DFCT10000; ComponentLink1Description: Manufacturer; ComponentLink1URL: http://www.we-online.de; ComponentLink2Description: Datasheet; ComponentLink2URL: https://www.we-online.com/catalog/datasheet/885012209027.pdf; Operating Temperature: -55 to +125degC; Packaging: Tape and Reel; Published Date: April 2021; Ceramic Type: X7R; Height: 2mm; Mounting Technology: SMT; Size: 1210; Capacitance: 4.7uF; Q-Factor min.: -
footprint WCAP-CSGP_1210_H=2mm
pins: 1, 2

## 885012209028
designator C?, comment 10uF, 25V
WCAP-CSGP Multilayer Ceramic Chip Capacitor, General Purpose, size 1210, X7R, 10uF, 25V; Manufacturer Part Number: 885012209028; Manufacturer: Wurth Elektronik; Rated Voltage: 25VDC; Isolation Resistance  min.: 0.01GOhm; Capacitance Tolerance: +/-10%; Dissipation Factor max.: 5%; Technical Reference: X7R1210106K025DFCT10000; ComponentLink1Description: Manufacturer; ComponentLink1URL: http://www.we-online.de; ComponentLink2Description: Datasheet; ComponentLink2URL: https://www.we-online.com/catalog/datasheet/885012209028.pdf; Operating Temperature: -55 to +125degC; Packaging: Tape and Reel; Published Date: April 2021; Ceramic Type: X7R; Height: 2mm; Mounting Technology: SMT; Size: 1210; Capacitance: 10uF; Q-Factor min.: -
footprint WCAP-CSGP_1210_H=2mm
pins: 1, 2

## 885012209029
designator C?, comment 1nF, 50V
WCAP-CSGP Multilayer Ceramic Chip Capacitor, General Purpose, size 1210, X7R, 1nF, 50V; Manufacturer Part Number: 885012209029; Manufacturer: Wurth Elektronik; Rated Voltage: 50VDC; Isolation Resistance  min.: 10GOhm; Capacitance Tolerance: +/-10%; Dissipation Factor max.: 2.5%; Technical Reference: X7R1210102K050DFCT10000; ComponentLink1Description: Manufacturer; ComponentLink1URL: http://www.we-online.de; ComponentLink2Description: Datasheet; ComponentLink2URL: https://www.we-online.com/catalog/datasheet/885012209029.pdf; Operating Temperature: -55 to +125degC; Packaging: Tape and Reel; Published Date: April 2021; Ceramic Type: X7R; Height: 0.95mm; Mounting Technology: SMT; Size: 1210; Capacitance: 1nF; Q-Factor min.: -
footprint WCAP-CSGP_1210_H=0.95mm
pins: 1, 2

## 885012209030
designator C?, comment 1.5nF, 50V
WCAP-CSGP Multilayer Ceramic Chip Capacitor, General Purpose, size 1210, X7R, 1.5nF, 50V; Manufacturer Part Number: 885012209030; Manufacturer: Wurth Elektronik; Rated Voltage: 50VDC; Isolation Resistance  min.: 10GOhm; Capacitance Tolerance: +/-10%; Dissipation Factor max.: 2.5%; Technical Reference: X7R1210152K050DFCT10000; ComponentLink1Description: Manufacturer; ComponentLink1URL: http://www.we-online.de; ComponentLink2Description: Datasheet; ComponentLink2URL: https://www.we-online.com/catalog/datasheet/885012209030.pdf; Operating Temperature: -55 to +125degC; Packaging: Tape and Reel; Published Date: April 2021; Ceramic Type: X7R; Height: 0.95mm; Mounting Technology: SMT; Size: 1210; Capacitance: 1.5nF; Q-Factor min.: -
footprint WCAP-CSGP_1210_H=0.95mm
pins: 1, 2

## 885012209031
designator C?, comment 2.2nF, 50V
WCAP-CSGP Multilayer Ceramic Chip Capacitor, General Purpose, size 1210, X7R, 2.2nF, 50V; Manufacturer Part Number: 885012209031; Manufacturer: Wurth Elektronik; Rated Voltage: 50VDC; Isolation Resistance  min.: 10GOhm; Capacitance Tolerance: +/-10%; Dissipation Factor max.: 2.5%; Technical Reference: X7R1210222K050DFCT10000; ComponentLink1Description: Manufacturer; ComponentLink1URL: http://www.we-online.de; ComponentLink2Description: Datasheet; ComponentLink2URL: https://www.we-online.com/catalog/datasheet/885012209031.pdf; Operating Temperature: -55 to +125degC; Packaging: Tape and Reel; Published Date: April 2021; Ceramic Type: X7R; Height: 0.95mm; Mounting Technology: SMT; Size: 1210; Capacitance: 2.2nF; Q-Factor min.: -
footprint WCAP-CSGP_1210_H=0.95mm
pins: 1, 2

## 885012209032
designator C?, comment 3.3nF, 50V
WCAP-CSGP Multilayer Ceramic Chip Capacitor, General Purpose, size 1210, X7R, 3.3nF, 50V; Manufacturer Part Number: 885012209032; Manufacturer: Wurth Elektronik; Rated Voltage: 50VDC; Isolation Resistance  min.: 10GOhm; Capacitance Tolerance: +/-10%; Dissipation Factor max.: 2.5%; Technical Reference: X7R1210332K050DFCT10000; ComponentLink1Description: Manufacturer; ComponentLink1URL: http://www.we-online.de; ComponentLink2Description: Datasheet; ComponentLink2URL: https://www.we-online.com/catalog/datasheet/885012209032.pdf; Operating Temperature: -55 to +125degC; Packaging: Tape and Reel; Published Date: April 2021; Ceramic Type: X7R; Height: 0.95mm; Mounting Technology: SMT; Size: 1210; Capacitance: 3.3nF; Q-Factor min.: -
footprint WCAP-CSGP_1210_H=0.95mm
pins: 1, 2